# Altium footprint library Voltage Regulator.PcbLib: 6 footprints
Each footprint in its own frame and in the unit in brackets; x right, y up, seen from the top. Pads: shape width x height; smd on the part's side, far side on the other; paste and mask are expansions set on the pad; w line width, h text height; cw(c..) or ccw(c..) is an arc to the next point about the centre after c.
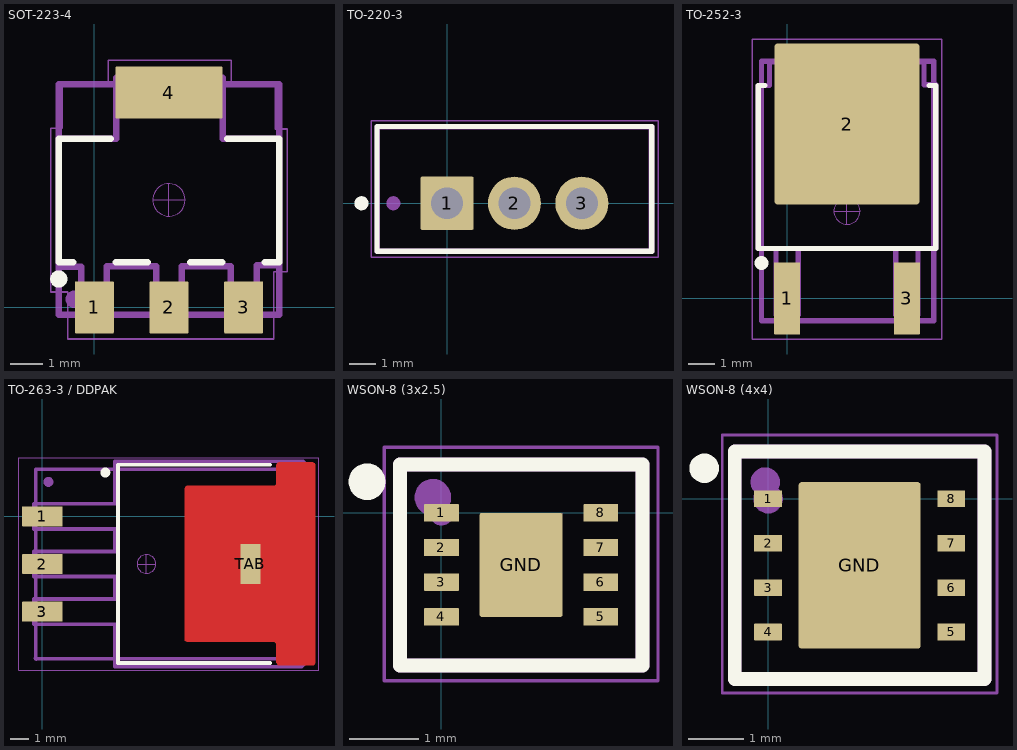
[diagram p0: the footprints below, top view; thin cyan lines are the x and y axes]

## SOT-223-4 [mm] "Small Outline Transistor 223"
height 1.653
pads (4):
  rrect5% 1.2x1.6 smd mask+0.05: 1(0,0) 2(2.3,0) 3(4.6,0)
  rrect5% 3.3x1.6 smd mask+0.05: 4(2.3,6.625)
Top Overlay:
  circle w0.27: c-1.1,0.875 r0.13
  lines w0.2: -0.653,1.398 -1.102,1.398 -1.102,5.202 0.497,5.202 ; 0.653,1.398 1.647,1.398 ; 2.953,1.398 3.947,1.398 ; 4.103,5.202 5.702,5.202 5.702,1.398 5.253,1.398
Top Component Outline:
  circle w0.27: c-0.625,0.25 r0.13
  lines w0.2: -1.102,-0.225 -1.102,6.875 5.702,6.875 5.702,-0.225 -1.102,-0.225
  text "'.Comment'" at 0.124,0.948 h1
Top Courtyard:
  lines w0.05: -1.35,0.475 -0.825,0.475 -0.825,-0.4 -0.825,-0.975 5.525,-0.975 5.525,-0.15 5.525,0.15 5.525,1.1 5.95,1.1 5.95,5.5 5.575,5.5 5.575,6.9 4.225,6.9 4.225,7.625 0.425,7.625 0.425,6.9 -1,6.9 -1,5.525 -1.35,5.525 -1.35,0.475
Top Component Center:
  circle w0.025: c2.3,3.312 r0.5
  lines w0.025: 1.8,3.312 2.3,3.312 ; 2.3,2.812 2.3,3.312 ; 2.3,3.812 2.3,3.312 ; 2.8,3.312 2.3,3.312
Top Designator:
  text "'.Designator'" at -1.367,2.989 h1.5
Top Assembly (Mech16):
  circle w0.27: c0,0 r0.13
  lines w0.2: -1.1,1.25 -1.1,5.2 0.675,5.2 0.675,7.075 3.95,7.075 3.95,5.2 5.7,5.2 5.7,1.3 5,1.3 5,-0.475 4.2,-0.475 4.2,1.275 2.7,1.275 2.7,-0.475 1.9,-0.475 1.9,1.275 0.375,1.275 0.375,-0.475 -0.4,-0.475 -0.4,1.25 -1.1,1.25
  text "'.Designator'" at -1.367,2.989 h1.5
3D body "SOT-223-4.step": height 1.65, standoff 0, extent -0.964,-0.227 5.586,6.873

## TO-220-3 [mm] "Transistor Outline 3 Leads"
height 19.65
pads (3):
  rrect5% 2x2 hole 1.2 mask+0.05: 1(0,0)
  round 2 hole 1.2 mask+0.05: 2(2.54,0) 3(5.08,0)
Top Overlay:
  circle w0.27: c-3.225,0 r0.13
  lines w0.2: -2.64,-1.81 7.72,-1.81 7.72,2.89 -2.64,2.89 -2.64,-1.81
Top Component Outline:
  circle w0.27: c-2.025,0 r0.13
  lines w0.2: -2.64,-1.81 -2.64,2.89 7.72,2.89 7.72,-1.81 -2.64,-1.81
  text "'.Comment'" at 0.324,-1.527 h1
Top Courtyard:
  lines w0.05: -2.85,-2.025 7.95,-2.025 7.95,3.1 -2.85,3.1 -2.85,-2.025
Top Component Center:
  circle w0.025: c2.54,0 r0.5
  lines w0.025: 2.04,0 2.54,0 ; 2.54,-0.5 2.54,0 ; 2.54,0.5 2.54,0 ; 3.04,0 2.54,0
Top Designator:
  text "'.Designator'" at -1.117,1.264 h1.5
Top Assembly (Mech16):
  circle w0.27: c0,0 r0.13
  circle w0.1: c5.075,0 r0.6
  circle w0.1: c2.55,0 r0.6
  lines w0.1: -0.604,-0.608 0.596,-0.608 ; -0.6,-0.604 -0.6,0.596 0.6,0.596 ; 0.604,-0.604 0.604,0.596
  lines w0.2: -2.625,-1.775 -2.625,2.875 7.7,2.875 7.7,-1.8 -2.6,-1.8 -2.625,-1.775
  text "'.Designator'" at -1.117,1.264 h1.5
3D body "TO-220-3.STEP": height 19.65, standoff -9.22, extent -2.54,-1.756 7.62,2.794

## TO-252-3 [mm] "Transistor Outline 3 Leads"
height 2.549
pads (3):
  rrect5% 1x2.75 smd mask+0.05: 1(0,0) 3(4.572,0)
  rrect5% 5.55x6.15 smd mask+0.05: 2(2.286,6.655)
Top Overlay:
  circle w0.27: c-0.975,1.35 r0.13
  lines w0.2: -0.85,8.125 -1.1,8.125 -1.1,1.9 5.675,1.9 5.675,8.125 5.425,8.125
Top Component Outline:
  circle w0.27: c0,0 r0.13
  lines w0.2: -0.975,-0.85 -0.975,9.05 5.6,9.05 5.6,-0.85 -0.975,-0.85
  text "'.Comment'" at 0.049,0.523 h1
Top Courtyard:
  lines w0.05: -1.325,-1.55 5.9,-1.55 5.9,9.9 -1.325,9.9 -1.325,-1.55
Top Component Center:
  circle w0.025: c2.286,3.327 r0.5
  lines w0.025: 1.786,3.327 2.286,3.327 ; 2.286,2.827 2.286,3.327 ; 2.286,3.827 2.286,3.327 ; 2.786,3.327 2.286,3.327
Top Designator:
  text "'.Designator'" at -1.392,4.489 h1.5
Top Assembly (Mech16):
  circle w0.27: c0,0 r0.13
  lines w0.2: -1.1,1.9 -0.425,1.9 -0.425,-0.625 0.425,-0.625 0.425,1.9 4.15,1.9 4.15,-0.625 5,-0.625 5,1.9 5.675,1.9 5.675,8.15 5.225,8.15 5.225,9.025 -0.675,9.025 -0.675,8.125 -1.1,8.125 -1.1,1.9
  text "'.Designator'" at -1.367,2.989 h1.5
3D body "TO-252-3.STEP": height 2.55, standoff 0.01, extent -0.97,-0.853 5.578,9.052

## TO-263-3 / DDPAK [mm] "Transistor Outline 3 Leads + Tab"
height 4.648
pads (4):
  rrect5% 2.16x1.07 smd mask+0.05: 1(0,0) 2(0,-2.55) 3(0,-5.1)
  rrect5% 1.07x2.16 smd paste+0 mask+0: TAB(11.15,-2.549)
Top Layer:
  region: 7.759,-6.725 7.731,-6.723 7.68,-6.699 7.642,-6.657 7.623,-6.603 7.625,-6.575 7.625,1.475 7.624,1.506 7.646,1.565 7.689,1.611 7.747,1.637 7.778,1.638 12.394,1.638 12.425,1.642 12.482,1.669 12.524,1.716 12.545,1.775 12.547,1.807 12.547,2.738 12.546,2.769 12.568,2.828 12.611,2.874 12.669,2.9 12.7,2.901 14.465,2.905 14.496,2.906 14.555,2.884 14.601,2.841 14.626,2.784 14.627,2.752 14.627,-7.85 14.625,-7.878 14.599,-7.928 14.556,-7.965 14.503,-7.983 14.474,-7.98 12.709,-7.985 12.679,-7.987 12.622,-7.969 12.577,-7.93 12.549,-7.876 12.547,-7.846 12.547,-6.875 12.542,-6.844 12.514,-6.787 12.466,-6.746 12.407,-6.726 12.375,-6.725
Top Overlay:
  circle w0.27: c3.375,2.35 r0.13
  lines w0.2: 12.2,-7.85 4.05,-7.85 4.05,2.775 12.2,2.775
Top Component Outline:
  circle w0.27: c0.325,1.85 r0.13
  lines w0.2: -0.35,-7.6 -0.35,2.525 13,2.525 13,-7.625 -0.325,-7.625
  lines w0.254: -0.35,-7.6 -0.325,-7.625
  text "'.Comment'" at 1.148,-7.03 h2
Top Courtyard:
  lines w0.05: -1.25,-8.25 -1.25,3.15 14.825,3.15 14.825,-8.25 -1.25,-8.25
Top Component Center:
  circle w0.025: c5.575,-2.55 r0.5
  lines w0.025: 5.075,-2.55 5.575,-2.55 ; 5.575,-3.05 5.575,-2.55 ; 5.575,-2.05 5.575,-2.55 ; 6.075,-2.55 5.575,-2.55
Top Designator:
  text "'.Designator'" at -0.534,-3.11 h2.5
Top Assembly (Mech16):
  circle w0.27: c0,-0.009 r0.13
  lines w0.2: -0.45,-5.775 -0.45,-4.425 3.9,-4.425 3.9,-3.225 -0.45,-3.225 -0.45,-1.875 3.9,-1.875 3.9,-0.675 -0.45,-0.675 -0.45,0.675 3.9,0.675 3.9,2.95 13.9,2.95 13.975,2.95 14.175,2.75 14.175,-7.775 13.9,-8.05 3.9,-8.05 3.9,-5.775 -0.45,-5.775
  text "'.Designator'" at -0.534,-3.11 h2.5
3D body "TO-263-3,DDPAK.STEP": height 4.65, standoff -0.15, extent -0.35,-7.63 14.001,2.53

## WSON-8 (3x2.5) [mm] "Plastic Small-outline No-lead Package 3mm x 2.5mm"
height 0.612
pads (9):
  rrect5% 0.5x0.25 smd mask+0.05: 1(0,0) 2(0,-0.5) 3(0,-1) 4(0,-1.5) 5(2.3,-1.5) 6(2.3,-1) 7(2.3,-0.5) 8(2.3,0)
  rrect5% 1.2x1.5 smd mask+0.05: GND(1.15,-0.75)
Top Overlay:
  circle w0.27: c-1.075,0.45 r0.13
  lines w0.2: -0.6,-2.2 2.9,-2.2 2.9,0.7 -0.6,0.7 -0.6,-2.2
Top Component Outline:
  circle w0.27: c-0.125,0.225 r0.13
  lines w0.2: -0.6,-2.2 -0.6,0.7 2.9,0.7 2.9,-2.2 -0.6,-2.2
  text "'.Comment'" at -1.076,-1.852 h1
Top Courtyard:
  lines w0.05: -0.825,-2.425 3.125,-2.425 3.125,0.95 -0.825,0.95 -0.825,-2.425
Top Component Center:
  circle w0.025: c1.15,-0.75 r0.5
  lines w0.025: 0.65,-0.75 1.15,-0.75 ; 1.15,-1.25 1.15,-0.75 ; 1.15,-0.25 1.15,-0.75 ; 1.65,-0.75 1.15,-0.75
Top Designator:
  text "'.Designator'" at -1.292,-0.974 h1
Top Assembly (Mech16):
  circle w0.2: c0,0 r0.08
  lines w0.2: -0.6,-2.2 -0.6,0.7 2.9,0.7 2.9,-2.2 -0.6,-2.2
  text "'.Designator'" at -1.292,-0.974 h1
3D body "WSON-8-3x2.5.step": height 0.61, standoff 0, extent -0.45,-2.045 2.75,0.545

## WSON-8 (4x4) [mm] "Plastic Small-outline No-lead Package 4mm x 4mm"
height 0.612
pads (9):
  rrect5% 0.5x0.3 smd mask+0.05: 1(0,0) 2(0,-0.8) 3(0,-1.6) 4(0,-2.4) 5(3.3,-2.4) 6(3.3,-1.6) 7(3.3,-0.8) 8(3.3,0)
  rrect5% 2.2x3 smd mask+0.05: GND(1.65,-1.2)
Top Overlay:
  circle w0.27: c-1.15,0.55 r0.13
  lines w0.25: -0.6,-3.25 3.9,-3.25 3.9,0.85 -0.6,0.85 -0.6,-3.25
Top Component Outline:
  circle w0.27: c-0.05,0.3 r0.13
  lines w0.25: -0.6,-3.25 -0.6,0.85 3.9,0.85 3.9,-3.25 -0.6,-3.25
  text "'.Comment'" at -0.576,-2.802 h1
Top Courtyard:
  lines w0.05: -0.825,-3.5 4.125,-3.5 4.125,1.15 -0.825,1.15 -0.825,-3.5
Top Component Center:
  circle w0.025: c1.65,-1.2 r0.5
  lines w0.025: 1.15,-1.2 1.65,-1.2 ; 1.65,-1.7 1.65,-1.2 ; 1.65,-0.7 1.65,-1.2 ; 2.15,-1.2 1.65,-1.2
Top Designator:
  text "'.Designator'" at -2.017,-1.536 h1.5
Top Assembly (Mech16):
  circle w0.27: c0,0 r0.13
  lines w0.2: -0.575,-3.25 -0.575,0.85 3.875,0.85 3.875,-3.25 -0.575,-3.25
  text "'.Designator'" at -2.017,-1.536 h1.5
3D body "WSON-8-4x4.step": height 0.61, standoff 0, extent -0.446,-3.245 3.746,0.845